# Altium footprint library RLC.PcbLib: 10 footprints
Each footprint in its own frame and in the unit in brackets; x right, y up, seen from the top. Pads: shape width x height; smd on the part's side, far side on the other; paste and mask are expansions set on the pad; w line width, h text height; cw(c..) or ccw(c..) is an arc to the next point about the centre after c.
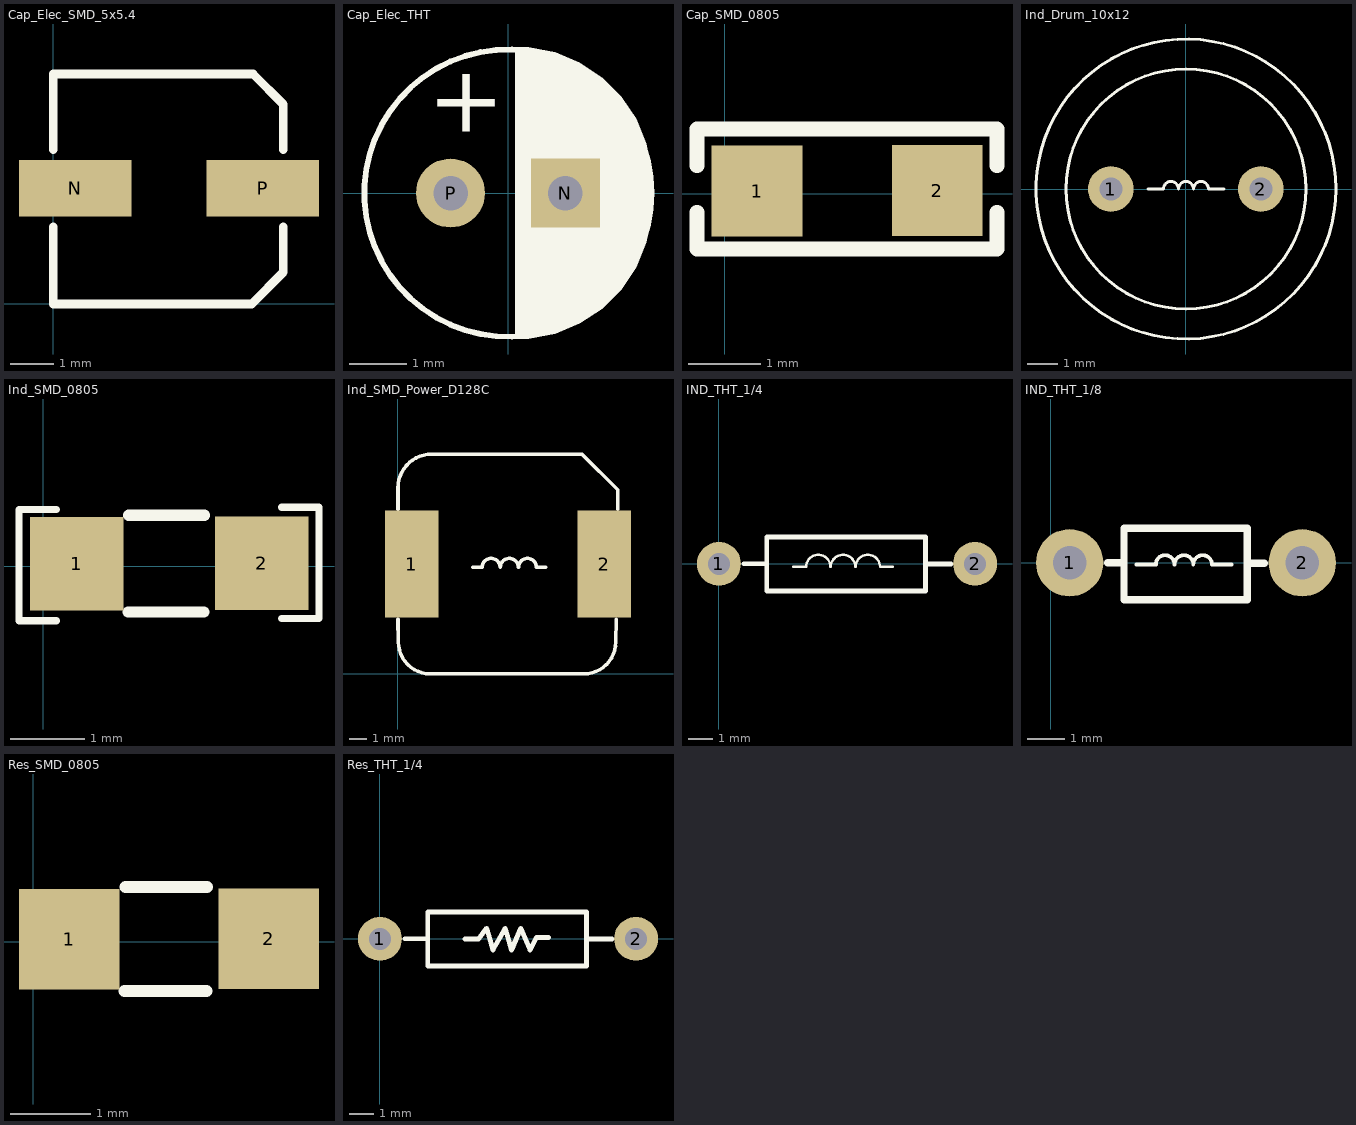
[diagram p0: the footprints below, top view; thin cyan lines are the x and y axes]

## Cap_Elec_SMD_5x5.4 [mm]
height 5.4
pads (2):
  rect 2.6x1.3 smd: N(0.508,2.667) P(4.826,2.667)
Top Overlay:
  lines w0.2: 0,1.778 0,0 4.572,0 5.3,0.728 5.3,1.778 ; 0,3.556 0,5.3 4.606,5.3 5.3,4.606 5.3,3.556
3D body "Cap_Elec_SMD_5x5.STEP": height 5.7, standoff 0, extent -0.483,0.017 5.817,5.317

## Cap_Elec_THT [mm]
height 11
pads (2):
  rect 1.2x1.2 hole 0.6: N(1,0)
  round 1.2 hole 0.6: P(-1,0)
Top Overlay:
  circle w0.1: c0,0 r2.5
  region: 0.127,2.54 0.127,-2.54 0.361,-2.54 0.819,-2.449 1.251,-2.27 1.64,-2.01 1.97,-1.68 2.23,-1.291 2.409,-0.859 2.5,-0.401 2.5,-0.167 2.5,0.167 2.5,0.401 2.409,0.859 2.23,1.291 1.97,1.68 1.64,2.01 1.251,2.27 0.819,2.449 0.361,2.54
  text "+" at -1.397,0.682 h2
3D body "Cap_Elec_THT_5x11.STEP": height 11.35, standoff -2.45, extent -2.5,-2.493 2.502,2.493

## Cap_SMD_0805 [mm]
pads (2):
  rect 1.25x1.25 smd: 1(0.447,0.035) 2(2.926,0.043)
Top Overlay:
  lines w0.2: -0.381,-0.254 -0.381,-0.762 3.747,-0.762 3.747,-0.254 ; -0.381,0.381 -0.381,0.889 3.747,0.889 3.747,0.381
3D body "Cap_SMD_0805.STEP": height 1.27, standoff 0, extent 0.688,-0.6 2.688,0.674

## Ind_Drum_10x12 [mil]
height 480.31
pads (2):
  round 60 hole 30: 1(-98.43,0) 2(98.43,0)
Top Overlay:
  circle w3.94: c0.16,0 r196.85
  circle w3.94: c0.16,0 r157.48
  lines w3.94: -49.92,0 -29.29,0 ; -29.53,0 cw(c-19.68,0) -9.84,0 ; -9.68,0 cw(c0.16,0) 10,0 cw(c19.84,0) 29.69,0 50.31,0
3D body "Ind_Drum_10x12.STEP": height 477.56, standoff -152.36, extent -197.93,-198.15 195.77,194.63

## Ind_SMD_0805 [mm]
pads (2):
  rect 1.25x1.25 smd: 1(0.447,0.035) 2(2.926,0.043)
Top Overlay:
  lines w0.1: 0.175,-0.73 -0.325,-0.73 -0.325,0.762 0.175,0.762 ; 3.193,-0.697 3.693,-0.697 3.693,0.795 3.193,0.795
  lines w0.15: 1.134,-0.61 2.15,-0.61 ; 1.144,0.685 2.16,0.685
3D body "Ind_SMD_0805.step": height 0.5, standoff 0, extent 0.626,-0.65 2.676,0.65

## Ind_SMD_Power_D128C [mm]
height 8
pads (2):
  rect 3x6 smd: 1(0.762,6.15) 2(11.557,6.15)
Top Overlay:
  lines w0.2: 0,3.048 0.026,1.777 ccw(c1.803,1.777) 1.803,0 10.414,0 ccw(c10.414,1.777) 12.191,1.777 12.217,3.048 ; 0,9.225 0,10.414 cw(c1.886,10.414) 1.886,12.3 10.306,12.3 12.3,10.306 12.3,9.225 ; 4.191,5.969 4.715,5.969 cw(c5.215,5.969) 5.715,5.969 ; 5.731,5.969 cw(c6.231,5.969) 6.731,5.969 ; 6.747,5.969 cw(c7.247,5.969) 7.747,5.969 8.271,5.969
3D body "Ind_SMD_D128C.step": height 8.16, standoff 0, extent -0.062,0.073 12.254,12.373

## IND_THT_1/4 [mm]
pads (2):
  round 1.8 hole 0.9: 1(0,0) 2(10.5,0)
Top Overlay:
  lines w0.1: 3.048,-0.127 3.572,-0.127 cw(c4.072,-0.127) 4.572,-0.127 ; 4.588,-0.127 cw(c5.088,-0.127) 5.588,-0.127 ; 5.604,-0.127 cw(c6.104,-0.127) 6.604,-0.127 7.128,-0.127
  lines w0.2: 1.016,0 1.961,0 ; 8.461,-0.008 9.525,-0.004 ; 1.961,-1.108 1.961,1.092 8.461,1.092 8.461,-1.108 1.961,-1.108

## IND_THT_1/8 [mm]
pads (2):
  round 1.8 hole 0.9: 1(0.508,0) 2(6.731,0)
Top Overlay:
  lines w0.1: 2.293,-0.046 2.817,-0.046 ; 2.811,-0.046 cw(c3.061,-0.046) 3.311,-0.046 ; 3.315,-0.046 cw(c3.565,-0.046) 3.815,-0.046 cw(c4.065,-0.046) 4.315,-0.046 4.839,-0.046
  lines w0.2: 1.524,0 1.961,0 ; 5.327,-0.008 5.715,-0.007 ; 1.961,-0.981 1.961,0.919 5.261,0.919 5.261,-0.981 1.961,-0.981
3D body "Ind_THT_0.125.STEP": height 1.92, standoff -2, extent 0.182,-0.981 7.04,0.846

## Res_SMD_0805 [mm]
pads (2):
  rect 1.25x1.25 smd: 1(0.447,0.035) 2(2.926,0.043)
Top Overlay:
  lines w0.15: 1.134,-0.61 2.15,-0.61 ; 1.144,0.685 2.16,0.685
3D body "Res_SMD_0805.STEP": height 0.6, standoff 0, extent 0.677,-0.592 2.709,0.678

## Res_THT_1/4 [mm]
pads (2):
  round 1.8 hole 0.9: 1(0,0) 2(10.5,0)
Top Overlay:
  lines w0.2: 1.016,0 1.961,0 ; 3.488,-0.011 4.045,-0.008 4.378,0.435 4.632,-0.454 5.14,0.435 5.394,-0.454 5.775,0.435 6.156,-0.454 6.41,0.054 6.918,0.056 ; 8.461,-0.008 9.525,-0.004 ; 1.961,-1.108 8.461,-1.108 8.461,1.092 1.961,1.092 1.961,-1.108
3D body "Res_THT_0.25_1K.STEP": height 2.39, standoff -2, extent -0.148,-1.261 10.512,1.141